# Altium footprint library DRV8870.PcbLib: 1 footprints
Each footprint in its own frame and in the unit in brackets; x right, y up, seen from the top. Pads: shape width x height; smd on the part's side, far side on the other; paste and mask are expansions set on the pad; w line width, h text height; cw(c..) or ccw(c..) is an arc to the next point about the centre after c.
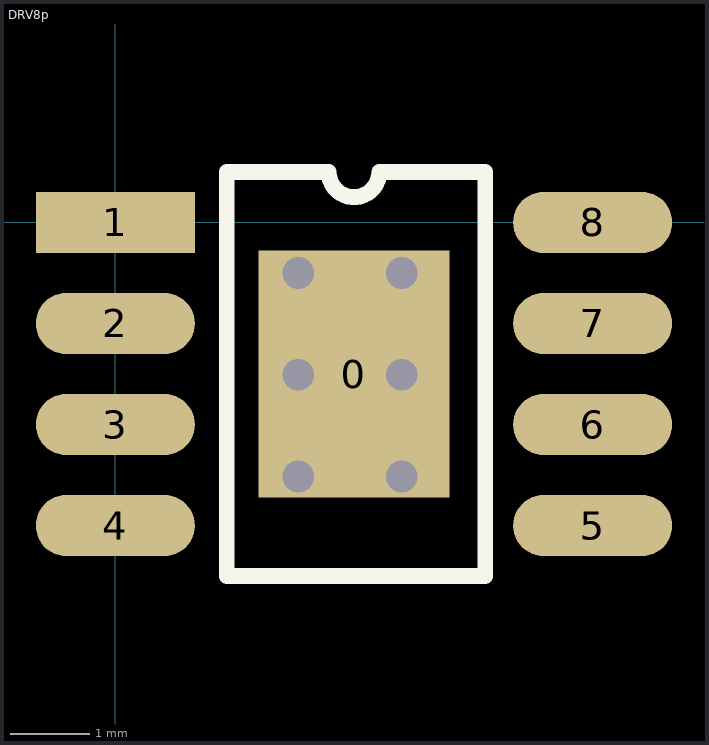
[diagram p0: the footprint, top view; thin cyan lines are the x and y axes]

## DRV8p [mm]
pads (9):
  rect 2.4x3.1 smd: 0(3,-1.905)
  rect 2x0.77 smd: 1(0,0)
  oval 2x0.77 smd: 2(0,-1.27) 3(0,-2.54) 4(0,-3.81) 5(6,-3.81) 6(6,-2.54) 7(6,-1.27) 8(6,0)
via 3.6,-3.195 diameter 0.5 hole 0.4
via 2.3,-3.195 diameter 0.5 hole 0.4
via 3.6,-1.915 diameter 0.5 hole 0.4
via 2.3,-1.915 diameter 0.5 hole 0.4
via 3.6,-0.635 diameter 0.5 hole 0.4
via 2.3,-0.635 diameter 0.5 hole 0.4
Top Overlay:
  lines w0.2: 1.4,-4.445 1.4,0.635 2.682,0.635 ccw(c3,0.635) 3.317,0.635 4.65,0.635 4.65,-4.445 1.4,-4.445